# Altium schematic symbol library SWD.SchLib: 1 symbol
Pins are listed as number, name and electrical type; pins without a type are passive.

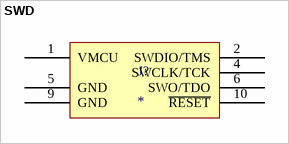
[diagram p0: symbol SWD]

## SWD
designator J?  (no BOM)
footprint 10 Pin SWD
pins: 1 VMCU, 2 SWDIO/TMS, 4 SWCLK/TCK, 5 GND, 6 SWO/TDO, 9 GND, 10 ~{RESET}